# Altium footprint library TI.PcbLib: 5 footprints
Each footprint in its own frame and in the unit in brackets; x right, y up, seen from the top. Pads: shape width x height; smd on the part's side, far side on the other; paste and mask are expansions set on the pad; w line width, h text height; cw(c..) or ccw(c..) is an arc to the next point about the centre after c.
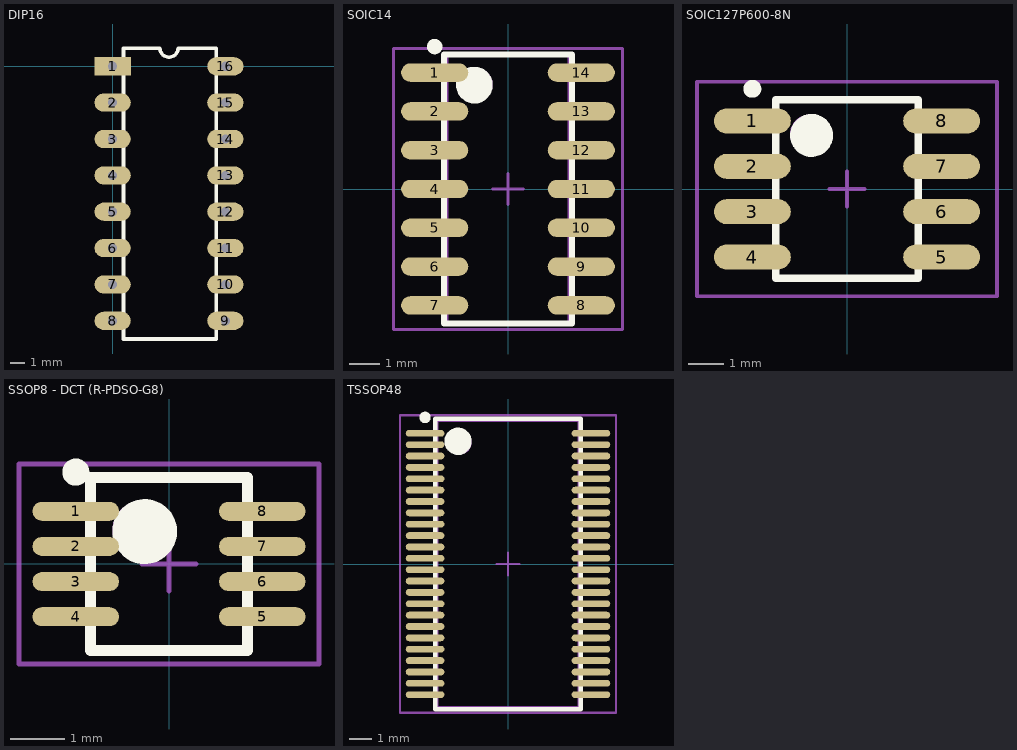
[diagram p0: the footprints below, top view; thin cyan lines are the x and y axes]

## DIP16 [mil]
pads (16):
  rect 100x50 hole 25: 1(0,0)
  oval 100x50 hole 25: 2(0,-100) 3(0,-200) 4(0,-300) 5(0,-400) 6(0,-500) 7(0,-600) 8(0,-700) 9(310,-700) 10(310,-600) 11(310,-500) 12(310,-400) 13(310,-300) 14(310,-200) 15(310,-100) 16(310,0)
Top Overlay:
  lines w10: 30,-750 30,50 130,50 ccw(c155,50) 180,50 285,50 285,-750 30,-750
3D body: height 200, standoff 20, extent 29.98,-750.02 285.02,50.02

## SOIC14 [mm] "SOIC, 14-Leads, Body 8.8x4.0mm (max), Pitch 1.27mm, IPC Medium Density"
height 1.75
pads (14):
  oval 2.2x0.6 smd: 1(-2.4,3.81) 2(-2.4,2.54) 3(-2.4,1.27) 4(-2.4,0) 5(-2.4,-1.27) 6(-2.4,-2.54) 7(-2.4,-3.81) 8(2.4,-3.81) 9(2.4,-2.54) 10(2.4,-1.27) 11(2.4,0) 12(2.4,1.27) 13(2.4,2.54) 14(2.4,3.81)
Top Overlay:
  circle w0.6: c-1.1,3.4 r0.3
  circle w0.25: c-2.4,4.66 r0.125
  lines w0.2: -2.1,-4.4 2.1,-4.4 2.1,4.4 -2.1,4.4 -2.1,-4.4
Mechanical 13:
  circle w0.1: c-1.05,3.425 r0.5
  lines w0.1: -2,-4.375 2,-4.375 2,4.375 -2,4.375 -2,-4.375
Mechanical 15:
  lines w0.1: -0.5,0 0.5,0 ; 0,-0.5 0,0.5 ; -3.75,-4.6 3.75,-4.6 3.75,4.6 -3.75,4.6 -3.75,-4.6
3D body: height 1.75, standoff 0.25, extent -2,-4.375 2,4.375

## SOIC127P600-8N [mm]
height 1.68
pads (8):
  oval 2.15x0.7 smd: 1(-2.65,1.905) 2(-2.65,0.635) 3(-2.65,-0.635) 4(-2.65,-1.905) 5(2.65,-1.905) 6(2.65,-0.635) 7(2.65,0.635) 8(2.65,1.905)
Top Overlay:
  circle w0.6: c-0.994,1.5 r0.3
  circle w0.25: c-2.65,2.805 r0.125
  lines w0.2: -1.994,-2.5 1.994,-2.5 1.994,2.5 -1.994,2.5 -1.994,-2.5
Mechanical 13:
  circle w0.1: c-1.045,1.54 r0.5
  lines w0.1: -1.995,-2.49 1.995,-2.49 1.995,2.49 -1.995,2.49 -1.995,-2.49
Mechanical 15:
  lines w0.1: -0.5,0 0.5,0 ; 0,-0.5 0,0.5 ; -4.2,-3 4.2,-3 4.2,3 -4.2,3 -4.2,-3
3D body: height 1.68, standoff 0.1, extent -1.995,-2.49 1.995,2.49

## SSOP8 - DCT (R-PDSO-G8) [mm]
height 1.3
pads (8):
  oval 1.6x0.35 smd: 1(-1.725,0.975) 2(-1.725,0.325) 3(-1.725,-0.325) 4(-1.725,-0.975) 5(1.725,-0.975) 6(1.725,-0.325) 7(1.725,0.325) 8(1.725,0.975)
Top Overlay:
  circle w0.6: c-0.45,0.6 r0.3
  circle w0.25: c-1.725,1.7 r0.125
  lines w0.2: -1.45,-1.6 1.45,-1.6 1.45,1.6 -1.45,1.6 -1.45,-1.6
Mechanical 13:
  circle w0.1: c-0.5,0.625 r0.5
  lines w0.1: -1.45,-1.575 1.45,-1.575 1.45,1.575 -1.45,1.575 -1.45,-1.575
Mechanical 15:
  lines w0.1: -0.5,0 0.5,0 ; 0,-0.5 0,0.5 ; -2.775,-1.85 2.775,-1.85 2.775,1.85 -2.775,1.85 -2.775,-1.85
3D body: height 1.3, standoff 0.1, extent -1.45,-1.575 1.45,1.575

## TSSOP48 [mm] "DGG (R-PDSO-G**)"
height 1.2
pads (48):
  oval 1.7x0.3 smd: 1(-3.65,5.75) 2(-3.65,5.25) 3(-3.65,4.75) 4(-3.65,4.25) 5(-3.65,3.75) 6(-3.65,3.25) 7(-3.65,2.75) 8(-3.65,2.25) 9(-3.65,1.75) 10(-3.65,1.25) 11(-3.65,0.75) 12(-3.65,0.25) 13(-3.65,-0.25) 14(-3.65,-0.75) 15(-3.65,-1.25) 16(-3.65,-1.75) 17(-3.65,-2.25) 18(-3.65,-2.75) 19(-3.65,-3.25) 20(-3.65,-3.75) 21(-3.65,-4.25) 22(-3.65,-4.75) 23(-3.65,-5.25) 24(-3.65,-5.75) 25(3.65,-5.75) 26(3.65,-5.25) 27(3.65,-4.75) 28(3.65,-4.25) 29(3.65,-3.75) 30(3.65,-3.25) 31(3.65,-2.75) 32(3.65,-2.25) 33(3.65,-1.75) 34(3.65,-1.25) 35(3.65,-0.75) 36(3.65,-0.25) 37(3.65,0.25) 38(3.65,0.75) 39(3.65,1.25) 40(3.65,1.75) 41(3.65,2.25) 42(3.65,2.75) 43(3.65,3.25) 44(3.65,3.75) 45(3.65,4.25) 46(3.65,4.75) 47(3.65,5.25) 48(3.65,5.75)
Top Overlay:
  circle w0.25: c-3.65,6.45 r0.125
  circle w0.6: c-2.2,5.4 r0.3
  lines w0.2: -3.2,-6.4 -3.2,6.4 3.2,6.4 3.2,-6.4 -3.2,-6.4
Mechanical 13:
  circle w0.1: c-2.15,5.35 r0.5
  lines w0.1: -3.1,-6.3 -3.1,6.3 3.1,6.3 3.1,-6.3 -3.1,-6.3
Mechanical 15:
  lines w0.1: -0.5,0 0.5,0 ; 0,-0.5 0,0.5 ; -4.75,-6.55 -4.75,6.55 4.75,6.55 4.75,-6.55 -4.75,-6.55
3D body: height 1.2, standoff 0.15, extent -3.1,-6.3 3.1,6.3